# Altium schematic symbol library machada_connectors.SchLib: 10 symbols
Pins are listed as number, name and electrical type; pins without a type are passive.

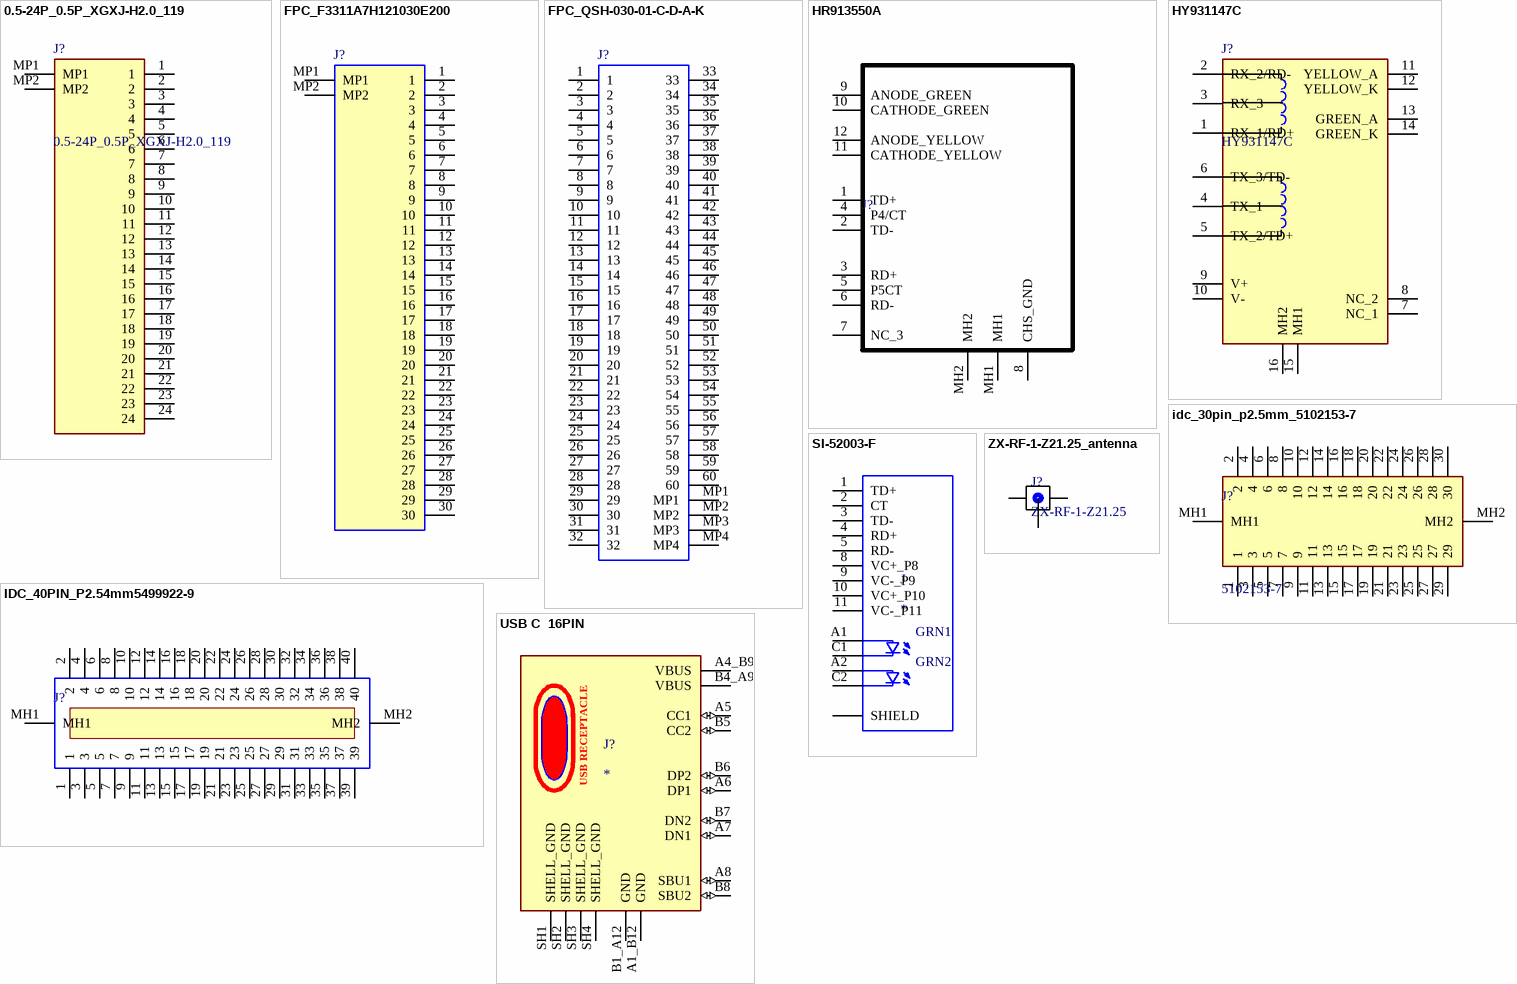
[diagram p0: symbols 0.5-24P_0.5P_XGXJ-H2.0_119 to ZX-RF-1-Z21.25_antenna]

## 0.5-24P_0.5P_XGXJ-H2.0_119
designator J?
SMT Connector 24p; Manufacturer_Name: Shou Han; Manufacturer_Part_Number: 0.5-24P XGXJ-H2.0 119; Geometry.Height: 2.15mm; Mouser Part Number: *; Mouser Price/Stock: *; Arrow Part Number: *; Arrow Price/Stock: *; Datasheet Link: https://datasheet.lcsc.com/lcsc/2108150230_SHOU-HAN-0-5-24P-XGXJ-H2-0-119_C2858298.pdf
footprint FPC_24PIN_0.5P
pins: 1, 2, 3, 4, 5, 6, 7, 8, 9, 10, 11, 12, 13, 14, 15, 16, 17, 18, 19, 20, 21, 22, 23, 24, MP1, MP2

## FPC_F3311A7H121030E200
designator J?, comment F3311A7H121030E200
Flex Connector, P=0.50mm, H=1.00mm, Right angle orientation, Flip type, ZIF, Double contact, point 30P; Manufacturer_Name: Amphenol Communication Solutions; Geometry.Height: 1.82mm; Manufacturer_Part_Number: F3311A7H121030E200; Mouser Part Number: 649-311A7H121030E200; Mouser Price/Stock: https://www.mouser.co.uk/ProductDetail/Amphenol-Aorora/F3311A7H121030E200?qs=DPoM0jnrROVGsaP%252BDiw0Xw%3D%3D; Arrow Part Number: *; Arrow Price/Stock: *; Mouser Testing Part Number: *; Mouser Testing Price/Stock: *; Datasheet Link: https://cdn.amphenol-cs.com/media/wysiwyg/files/drawing/f331.pdf
footprint FPC_30PIN_P0.5_F3311A7H121030E200 (FPC/FFC 30PIN CONNECTOR 0.5 PITCH)
pins: 1, 2, 3, 4, 5, 6, 7, 8, 9, 10, 11, 12, 13, 14, 15, 16, 17, 18, 19, 20, 21, 22, 23, 24, 25, 26, 27, 28, 29, 30, MP1, MP2

## FPC_QSH-030-01-C-D-A-K
designator J?, comment QSH-030-01-C-D-A-K
Samtec, QSH 0.5mm Pitch 20 Way 1 Row Right Angle PCB Socket, Surface Mount, Solder Termination; Geometry.Height: 3.35mm; Manufacturer_Name: SAMTEC; Manufacturer_Part_Number: QSH-030-01-C-D-A-K; Mouser Part Number: 200-QSH03001CDAK; Mouser Price/Stock: https://www.mouser.co.uk/ProductDetail/Samtec/QSH-030-01-C-D-A-K?qs=92ilVni64gyeFD0fY5%252BaMA%3D%3D; Arrow Part Number: QSH-030-01-C-D-A-K; Arrow Price/Stock: https://www.arrow.com/en/products/qsh-030-01-c-d-a-k/samtec; Mouser Testing Part Number: *; Mouser Testing Price/Stock: *; Datasheet Link: http://suddendocs.samtec.com/prints/qsh-xxx-01-x-d-xxx-mkt.pdf
footprint Model Name (Footprint not found)
footprint FPC_QSH03001LDAK (QSH 0.5mm Pitch 20 Way 1 Row Right Angle PCB Socket, Surface Mount, Solder Termination)
pins: 1, 2, 3, 4, 5, 6, 7, 8, 9, 10, 11, 12, 13, 14, 15, 16, 17, 18, 19, 20, 21, 22, 23, 24, 25, 26, 27, 28, 29, 30, 31, 32, 33, 34, 35, 36, 37, 38, 39, 40, 41, 42, 43, 44, 45, 46, 47, 48, 49, 50, 51, 52, 53, 54, 55, 56, 57, 58, 59, 60, MP1, MP2, MP3, MP4

## HR913550A
designator J?
Ethernet Connectors/Modular Connectors (RJ45 RJ11) RJ45Plugin RoHS; Manufacturer_Name: Hanrun Electronics; Geometry.Height: 13.75mm; Manufacturer_Part_Number: HR913550A; Mouser Part Number: *; Mouser Price/Stock: *; Arrow Part Number: *; Arrow Price/Stock: *; Mouser Testing Part Number: *; Mouser Testing Price/Stock: *; Datasheet Link: https://datasheet.lcsc.com/szlcsc/Zhongshan-HanRun-Elec-HR913550A_C163507.pdf
footprint HR913550A
pins: 1 TD+, 2 TD-, 3 RD+, 4 P4/CT, 5 P5CT, 6 RD-, 7 NC_3, 8 CHS_GND, 9 ANODE_GREEN, 10 CATHODE_GREEN, 11 CATHODE_YELLOW, 12 ANODE_YELLOW, MH1, MH2

## HY931147C
designator J?
Single Port RJ45 Connector with LEDs and Integrated Magnetics; Manufacturer_Name: Hanrun Electronics; Geometry.Height: 15.71mm; Manufacturer_Part_Number: HY931147C; Mouser Part Number: *; Mouser Price/Stock: *; Arrow Part Number: *; Arrow Price/Stock: *; Datasheet Link: http://www.knap.at/datenblaetter/ste/ste_han_hy931147c.pdf
footprint HY931147C
pins: 1 RX_1/RD+, 2 RX_2/RD-, 3 RX_3, 4 TX_1, 5 TX_2/TD+, 6 TX_3/TD-, 7 NC_1, 8 NC_2, 9 V+, 10 V-, 11 YELLOW_A, 12 YELLOW_K, 13 GREEN_A, 14 GREEN_K, 15 MH1, 16 MH2

## idc_30pin_p2.5mm_5102153-7
designator J?, comment 5102153-7
Headers & Wire Housings 100X100 HDR 2X015P VRT; Manufacturer_Name: TE Connectivity; Geometry.Height: 14.14mm; Mouser Part Number: 571-5102153-7; Mouser Price/Stock: https://www.mouser.co.uk/ProductDetail/TE-Connectivity/5102153-7?qs=AplfTeSvkkDiNMwj1pYS5g%3D%3D; Manufacturer_Part_Number: 5102153-7; Datasheet Link: https://www.te.com/commerce/DocumentDelivery/DDEController?Action=srchrtrv&DocNm=5102153&DocType=Customer+Drawing&DocLang=English&PartCntxt=5102153-7&DocFormat=pdf
footprint IDC_30pin_51021537
pins: 1, 2, 3, 4, 5, 6, 7, 8, 9, 10, 11, 12, 13, 14, 15, 16, 17, 18, 19, 20, 21, 22, 23, 24, 25, 26, 27, 28, 29, 30, MH1, MH2

## IDC_40PIN_P2.54mm5499922-9
designator J?, comment 5499922-9
Headers & Wire Housings 40 POS HDR 15AU W/LONG LATCHES; Manufacturer_Name: TE Connectivity; Geometry.Height: 27.82mm; Manufacturer_Part_Number: 5499922-9; Mouser Part Number: 571-5499922-9; Mouser Price/Stock: https://www.mouser.co.uk/ProductDetail/TE-Connectivity/5499922-9/?qs=A%252B%2FNCR0PvNXkenWCGz5CQw%3D%3D; Arrow Part Number: 5499922-9; Arrow Price/Stock: https://www.arrow.com/en/products/5499922-9/te-connectivity; Mouser Testing Part Number: *; Mouser Testing Price/Stock: *; Datasheet Link: https://componentsearchengine.com/Datasheets/2/5499922-9.pdf
footprint IDC_40pin_p2.54mm_54999229
pins: 1, 2, 3, 4, 5, 6, 7, 8, 9, 10, 11, 12, 13, 14, 15, 16, 17, 18, 19, 20, 21, 22, 23, 24, 25, 26, 27, 28, 29, 30, 31, 32, 33, 34, 35, 36, 37, 38, 39, 40, MH1, MH2

## SI-52003-F
designator J
1 Port RJ45 Magjack Connector Through Hole 10/100 Base-T, AutoMDIX, Power over Ethernet _PoE_; MF: Stewart Connector; MP: SI-52003-F; SnapEDA_Link: https://www.snapeda.com/parts/SI-52003-F/Bel%20Magnetic%20Solutions/view-part/2758988/?ref=snap; Availability: Unavailable; Package: None; Price: None; Value: *
footprint SI-52003-F_RJ45_POE_TR_nobridge
pins: 1 TD+, 2 CT, 3 TD-, 4 RD+, 5 RD-, 8 VC+_P8, 9 VC-_P9, 10 VC+_P10, 11 VC-_P11, A1, A2, C1, C2, S1 SHIELD, S2 SHIELD
text: GRN1; GRN2

## USB C  16PIN
designator J?
USB-C (USB TYPE-C) USB 2.0 Receptacle Connector 24 (16+8 Dummy) Position Surface Mount, Right Angle; Through Hole; MF: GCT; MP: USB4105-GF-A; SnapEDA_Link: https://www.snapeda.com/parts/USB4105-GF-A/Global+Connector+Technology/view-part/?ref=snap; Package: None; Value: *; Check_prices: https://www.snapeda.com/parts/USB4105-GF-A/Global+Connector+Technology/view-part/?ref=eda
footprint GCT_USB4105-GF-A
pins: A1_B12 GND (power), A4_B9 VBUS (power), A5 CC1 (io), A6 DP1 (io), A7 DN1 (io), A8 SBU1 (io), B1_A12 GND (power), B4_A9 VBUS (power), B5 CC2 (io), B6 DP2 (io), B7 DN2 (io), B8 SBU2 (io), SH1 SHELL_GND (power), SH2 SHELL_GND (power), SH3 SHELL_GND (power), SH4 SHELL_GND (power)
text: USB RECEPTACLE

## ZX-RF-1-Z21.25_antenna
designator J?, comment ZX-RF-1-Z21.25
footprint u.fl_connector
pins: ANT, GND, GND